# EAGLE library part TEXAS_INSTRUMENTS-BUCK_CONVERTER-TPS563207 (library Module_Regulators)
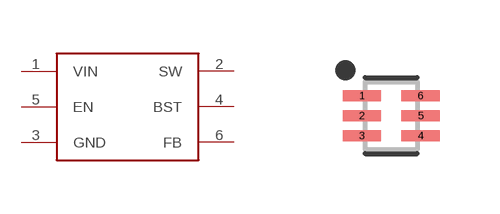
[diagram p44: symbol with the pads of TEXAS_INSTRUMENTS-BUCK_CONVERTER-TPS563207; footprint TEXAS_INSTRUMENTS-BUCK_CONVERTER-TPS563207]

Designator prefix U

## TEXAS_INSTRUMENTS-BUCK_CONVERTER-TPS563207  [TEXAS_INSTRUMENTS-BUCK_CONVERTER-TPS563207]
1  VIN
2  SW
3  GND
4  BST
5  EN
6  FB

## Footprint TEXAS_INSTRUMENTS-BUCK_CONVERTER-TPS563207 (pad centres in mm)
6-SOT23, 0.50 mm pitch, 1.60 mm span, 1.60 X 1.20 X 0.60 mm body 6-pin SOT23 package with 0.50 mm pitch, 1.60 mm span with body size 1.60 X 1.20 X 0.60 mm
smd 0.96 x 0.274: 1 -0.735,0.5; 2 -0.735,0; 3 -0.735,-0.5; 4 0.735,-0.5; 5 0.735,0; 6 0.735,0.5